# Altium schematic symbol library Cap_EEPROM.SchLib: 3 symbols
Pins are listed as number, name and electrical type; pins without a type are passive.

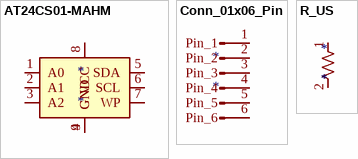
[diagram p0: symbols AT24CS01-MAHM to R_US]

## AT24CS01-MAHM
designator *
pins: 1 A0, 2 A1, 3 A2, 4 GND, 5 SDA, 6 SCL, 7 WP, 8 VCC, 9 GND

## Conn_01x06_Pin
designator *
pins: 1 Pin_1, 2 Pin_2, 3 Pin_3, 4 Pin_4, 5 Pin_5, 6 Pin_6

## R_US
designator *
pins: 1, 2